# Altium schematic symbol library Driver_Display.SchLib: 11 symbols
Pins are listed as number, name and electrical type; pins without a type are passive.

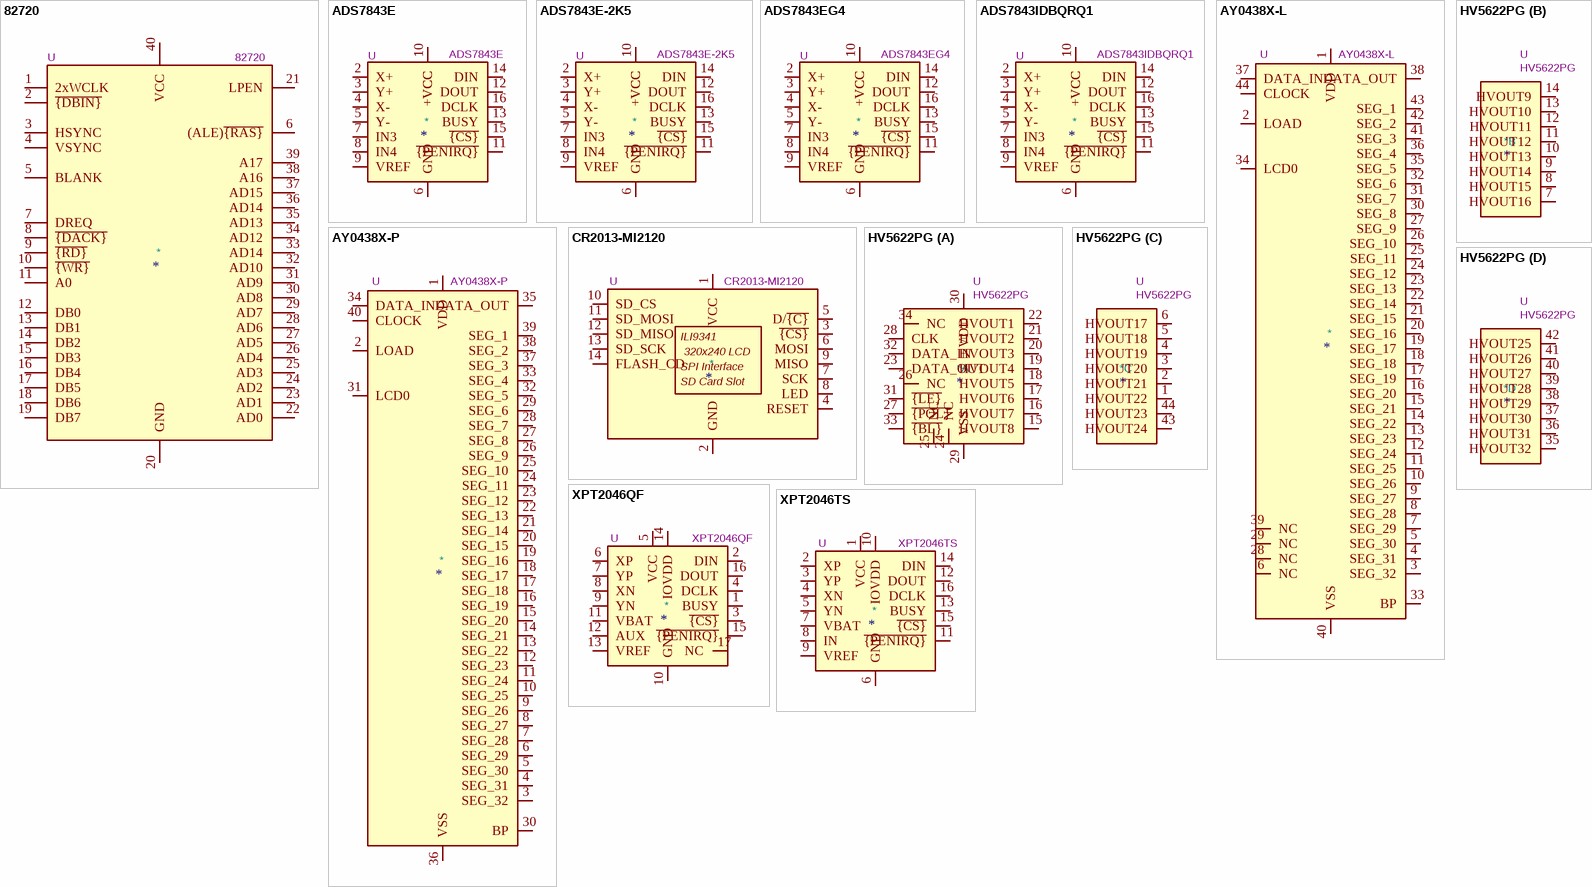
[diagram p0: symbols 82720 to XPT2046TS]

## 82720
designator *  value 82720  Reference: U
Graphics Display Controller, PDIP-40; ki_keywords: Graphics Controller; ki_fp_filters: DIP*W15.24mm*; Footprint: Package_DIP:DIP-40_W15.24mm; Description_: Graphics Display Controller, PDIP-40
pins: 1 2xWCLK, 2 ~{{DBIN}}, 3 HSYNC, 4 VSYNC, 5 BLANK, 6 (ALE)~{{RAS}}, 7 DREQ, 8 ~{{DACK}}, 9 ~{{RD}}, 10 ~{{WR}}, 11 A0, 12 DB0, 13 DB1, 14 DB2, 15 DB3, 16 DB4, 17 DB5, 18 DB6, 19 DB7, 20 GND, 21 LPEN, 22 AD0, 23 AD1, 24 AD2, 25 AD3, 26 AD4, 27 AD5, 28 AD6, 29 AD7, 30 AD8, 31 AD9, 32 AD10, 33 AD14, 34 AD12, 35 AD13, 36 AD14, 37 AD15, 38 A16, 39 A17, 40 VCC

## ADS7843E
designator *  value ADS7843E  Reference: U
Single-supply, 12bit, 4 ch, touch screen driver, 2.2 - 5.25 VDD, -40 to +85 C, QSPI, SPI, 3-wire serial interface, SSOP-16; ki_fp_filters: *SSOP*3.9x4.9mm*P0.635mm*; Footprint: Package_SO:SSOP-16_3.9x4.9mm_P0.635mm; Datasheet: http://www.ti.com/lit/ds/symlink/ads7843.pdf; Description_: Single-supply, 12bit, 4 ch, touch screen driver, 2.2 - 5.25 VDD, -40 to +85 C, QSPI, SPI, 3-wire serial interface, SSOP-16; ki_keywords: Single-supply, 12bit, 4 ch, touch screen driver, 2.2 - 5.25 VDD, -40 to +85 C, QSPI, SPI, 3-wire serial interface, SSOP-16
pins: 1 +VCC, 2 X+, 3 Y+, 4 X-, 5 Y-, 6 GND, 7 IN3, 8 IN4, 9 VREF, 10 +VCC, 11 ~{{PENIRQ}}, 12 DOUT, 13 BUSY, 14 DIN, 15 ~{{CS}}, 16 DCLK

## ADS7843E-2K5
designator *  value ADS7843E-2K5  Reference: U
Single-supply, 12bit, 4 ch, touch screen driver, 2.2 - 5.25 VDD, -40 to +85 C, QSPI, SPI, 3-wire serial interface, SSOP-16; ki_fp_filters: *SSOP*3.9x4.9mm*P0.635mm*; Footprint: Package_SO:SSOP-16_3.9x4.9mm_P0.635mm; Datasheet: http://www.ti.com/lit/ds/symlink/ads7843.pdf; Description_: Single-supply, 12bit, 4 ch, touch screen driver, 2.2 - 5.25 VDD, -40 to +85 C, QSPI, SPI, 3-wire serial interface, SSOP-16; ki_keywords: Single-supply, 12bit, 4 ch, touch screen driver, 2.2 - 5.25 VDD, -40 to +85 C, QSPI, SPI, 3-wire serial interface, SSOP-16
pins: 1 +VCC, 2 X+, 3 Y+, 4 X-, 5 Y-, 6 GND, 7 IN3, 8 IN4, 9 VREF, 10 +VCC, 11 ~{{PENIRQ}}, 12 DOUT, 13 BUSY, 14 DIN, 15 ~{{CS}}, 16 DCLK

## ADS7843EG4
designator *  value ADS7843EG4  Reference: U
Single-supply, 12bit, 4 ch, touch screen driver, 2.2 - 5.25 VDD, -40 to +85 C, QSPI, SPI, 3-wire serial interface, SSOP-16; ki_fp_filters: *SSOP*3.9x4.9mm*P0.635mm*; Footprint: Package_SO:SSOP-16_3.9x4.9mm_P0.635mm; Datasheet: http://www.ti.com/lit/ds/symlink/ads7843.pdf; Description_: Single-supply, 12bit, 4 ch, touch screen driver, 2.2 - 5.25 VDD, -40 to +85 C, QSPI, SPI, 3-wire serial interface, SSOP-16; ki_keywords: Single-supply, 12bit, 4 ch, touch screen driver, 2.2 - 5.25 VDD, -40 to +85 C, QSPI, SPI, 3-wire serial interface, SSOP-16
pins: 1 +VCC, 2 X+, 3 Y+, 4 X-, 5 Y-, 6 GND, 7 IN3, 8 IN4, 9 VREF, 10 +VCC, 11 ~{{PENIRQ}}, 12 DOUT, 13 BUSY, 14 DIN, 15 ~{{CS}}, 16 DCLK

## ADS7843IDBQRQ1
designator *  value ADS7843IDBQRQ1  Reference: U
Single-supply, 12bit, 4 ch, touch screen driver, 2.2 - 5.25 VDD, -40 to +125 C, QSPI, SPI, 3-wire serial interface, SSOP-16; ki_fp_filters: *SSOP*3.9x4.9mm*P0.635mm*; Footprint: Package_SO:SSOP-16_3.9x4.9mm_P0.635mm; Datasheet: http://www.ti.com/lit/ds/symlink/ads7843-q1.pdf; Description_: Single-supply, 12bit, 4 ch, touch screen driver, 2.2 - 5.25 VDD, -40 to +125 C, QSPI, SPI, 3-wire serial interface, SSOP-16; ki_keywords: Single-supply, 12bit, 4 ch, touch screen driver, 2.2 - 5.25 VDD, -40 to +125 C, QSPI, SPI, 3-wire serial interface, SSOP-16
pins: 1 +VCC, 2 X+, 3 Y+, 4 X-, 5 Y-, 6 GND, 7 IN3, 8 IN4, 9 VREF, 10 +VCC, 11 ~{{PENIRQ}}, 12 DOUT, 13 BUSY, 14 DIN, 15 ~{{CS}}, 16 DCLK

## AY0438X-L
designator *  value AY0438X-L  Reference: U
32-Segment CMOS LCD Driver, CMOS and TTL-compatible inputs, VDD +3.0V to +8.5V, PLCC-44; ki_keywords: driver display; ki_fp_filters: PLCC*; Footprint: Package_LCC:PLCC-44; Datasheet: http://www.farnell.com/datasheets/43336.pdf; Description_: 32-Segment CMOS LCD Driver, CMOS and TTL-compatible inputs, VDD +3.0V to +8.5V, PLCC-44
pins: 1 VDD, 2 LOAD, 3 SEG_32, 4 SEG_31, 5 SEG_30, 6 NC, 7 SEG_29, 8 SEG_28, 9 SEG_27, 10 SEG_26, 11 SEG_25, 12 SEG_24, 13 SEG_23, 14 SEG_22, 15 SEG_21, 16 SEG_20, 17 SEG_19, 18 SEG_18, 19 SEG_17, 20 SEG_16, 21 SEG_15, 22 SEG_14, 23 SEG_13, 24 SEG_12, 25 SEG_11, 26 SEG_10, 27 SEG_9, 28 NC, 29 NC, 30 SEG_8, 31 SEG_7, 32 SEG_6, 33 BP, 34 LCD0, 35 SEG_5, 36 SEG_4, 37 DATA_IN, 38 DATA_OUT, 39 NC, 40 VSS, 41 SEG_3, 42 SEG_2, 43 SEG_1, 44 CLOCK

## AY0438X-P
designator *  value AY0438X-P  Reference: U
32-Segment CMOS LCD Driver, CMOS and TTL-compatible inputs, VDD +3.0V to +8.5V, DIP-40; ki_keywords: driver display; ki_fp_filters: DIP*W15.24mm*; Footprint: Package_DIP:DIP-40_W15.24mm; Datasheet: http://www.farnell.com/datasheets/43336.pdf; Description_: 32-Segment CMOS LCD Driver, CMOS and TTL-compatible inputs, VDD +3.0V to +8.5V, DIP-40
pins: 1 VDD, 2 LOAD, 3 SEG_32, 4 SEG_31, 5 SEG_30, 6 SEG_29, 7 SEG_28, 8 SEG_27, 9 SEG_26, 10 SEG_25, 11 SEG_24, 12 SEG_23, 13 SEG_22, 14 SEG_21, 15 SEG_20, 16 SEG_19, 17 SEG_18, 18 SEG_17, 19 SEG_16, 20 SEG_15, 21 SEG_14, 22 SEG_13, 23 SEG_12, 24 SEG_11, 25 SEG_10, 26 SEG_9, 27 SEG_8, 28 SEG_7, 29 SEG_6, 30 BP, 31 LCD0, 32 SEG_5, 33 SEG_4, 34 DATA_IN, 35 DATA_OUT, 36 VSS, 37 SEG_3, 38 SEG_2, 39 SEG_1, 40 CLOCK

## CR2013-MI2120
designator *  value CR2013-MI2120  Reference: U
ILI9341 controller, SPI TFT LCD Display, 9-pin breakout PCB, 4-pin SD card interface, 5V/3.3V; ki_keywords: driver display; ki_fp_filters: *CR2013*MI2120*; Footprint: Display:CR2013-MI2120; Datasheet: http://pan.baidu.com/s/11Y990; Description_: ILI9341 controller, SPI TFT LCD Display, 9-pin breakout PCB, 4-pin SD card interface, 5V/3.3V
pins: 1 VCC, 2 GND, 3 ~{{CS}}, 4 RESET, 5 D/~{{C}}, 6 MOSI, 7 SCK, 8 LED, 9 MISO, 10 SD_CS, 11 SD_MOSI, 12 SD_MISO, 13 SD_SCK, 14 FLASH_CD
text: ILI9341; 320x240 LCD; SPI Interface; SD Card Slot

## HV5622PG
designator *  value HV5622PG  Reference: U
32-Channel, Serial to Parallel Converter w/ Open Drain Outputs, PQFP-44; ki_keywords: level-shifter 32-bit-shift-register; ki_fp_filters: *PQFP*10x10mm*P0.8mm*; Footprint: Package_QFP:PQFP-44_10x10mm_P0.8mm; Datasheet: https://ww1.microchip.com/downloads/aemDocuments/documents/OTH/ProductDocuments/DataSheets/20005854A.pdf; Description_: 32-Channel, Serial to Parallel Converter w/ Open Drain Outputs, PQFP-44
part A pins: 15 HVOUT8, 16 HVOUT7, 17 HVOUT6, 18 HVOUT5, 19 HVOUT4, 20 HVOUT3, 21 HVOUT2, 22 HVOUT1, 23 DATA_OUT, 24 NC, 25 NC, 26 NC, 27 ~{{POL}}, 28 CLK, 29 VSS, 30 VDD, 31 ~{{LE}}, 32 DATA_IN, 33 ~{{BL}}, 34 NC
part B pins: 7 HVOUT16, 8 HVOUT15, 9 HVOUT14, 10 HVOUT13, 11 HVOUT12, 12 HVOUT11, 13 HVOUT10, 14 HVOUT9
part C pins: 1 HVOUT22, 2 HVOUT21, 3 HVOUT20, 4 HVOUT19, 5 HVOUT18, 6 HVOUT17, 43 HVOUT24, 44 HVOUT23
part D pins: 35 HVOUT32, 36 HVOUT31, 37 HVOUT30, 38 HVOUT29, 39 HVOUT28, 40 HVOUT27, 41 HVOUT26, 42 HVOUT25

## XPT2046QF
designator *  value XPT2046QF  Reference: U
Single-supply, 12bit, 4 ch, touch screen driver, 2.2 - 5.25 VDD, -40 to +85 C, QSPI, SPI, 3-wire serial interface, QFN-16; ki_fp_filters: *QFN*1EP*4x4mm*P0.65mm*; Footprint: Package_DFN_QFN:QFN-16-1EP_4x4mm_P0.65mm_EP2.1x2.1mm; Datasheet: http://www.xptek.cn/uploadfile/download/201707171401161883.pdf; Description_: Single-supply, 12bit, 4 ch, touch screen driver, 2.2 - 5.25 VDD, -40 to +85 C, QSPI, SPI, 3-wire serial interface, QFN-16
pins: 1 BUSY, 2 DIN, 3 ~{{CS}}, 4 DCLK, 5 VCC, 6 XP, 7 YP, 8 XN, 9 YN, 10 GND, 11 VBAT, 12 AUX, 13 VREF, 14 IOVDD, 15 ~{{PENIRQ}}, 16 DOUT, 17 NC

## XPT2046TS
designator *  value XPT2046TS  Reference: U
Single-supply, 12bit, 4 ch, touch screen driver, 2.2 - 5.25 VDD, -40 to +85 C, QSPI, SPI, 3-wire serial interface, TSSOP-16; ki_fp_filters: *TSSOP*4.4x5mm*P0.65mm*; Footprint: Package_SO:TSSOP-16_4.4x5mm_P0.65mm; Datasheet: http://www.xptek.cn/uploadfile/download/201707171401161883.pdf; Description_: Single-supply, 12bit, 4 ch, touch screen driver, 2.2 - 5.25 VDD, -40 to +85 C, QSPI, SPI, 3-wire serial interface, TSSOP-16; ki_keywords: Single-supply, 12bit, 4 ch, touch screen driver, 2.2 - 5.25 VDD, -40 to +85 C, QSPI, SPI, 3-wire serial interface, TSSOP-16
pins: 1 VCC, 2 XP, 3 YP, 4 XN, 5 YN, 6 GND, 7 VBAT, 8 IN, 9 VREF, 10 IOVDD, 11 ~{{PENIRQ}}, 12 DOUT, 13 BUSY, 14 DIN, 15 ~{{CS}}, 16 DCLK